# EAGLE library part MAX3107 (library BackplaneParts)
MAX3107 SPI/I2C UART with 128-Word FIFOs Digi-Key part: http://www.digikey.com/product-detail/en/maxim-integrated/MAX3107EAG-/MAX3107EAG--ND/2238939
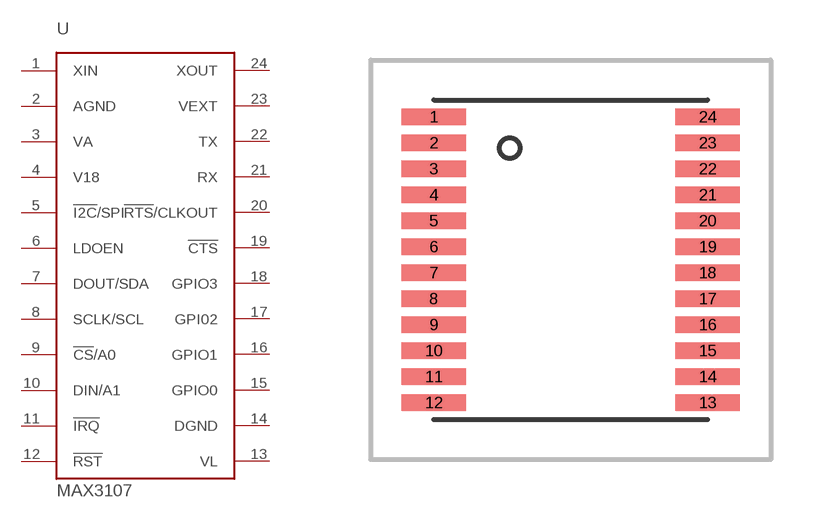
[diagram p1: symbol with the pads of SSOP-24; footprint SSOP-24]

Designator prefix U

## MAX3107SSOP  [SSOP-24]
1  XIN
2  AGND
3  VA
4  V18
5  !I2C!/SPI
6  LDOEN
7  DOUT/SDA
8  SCLK/SCL
9  !CS!/A0
10  DIN/A1
11  !IRQ!
12  !RST!
13  VL
14  DGND
15  GPIO0
16  GPIO1
17  GPI02
18  GPIO3
19  !CTS!
20  !RTS!/CLKOUT
21  RX
22  TX
23  VEXT
24  XOUT

## Footprint SSOP-24 (pad centres in mm)
SSOP-24 Built for a MAX3107 Drawing link: http://pdfserv.maximintegrated.com/land_patterns/90-0110.PDF
smd 1.62 x 0.42: 1 -3.425,3.575; 2 -3.425,2.925; 3 -3.425,2.275; 4 -3.425,1.625; 5 -3.425,0.975; 6 -3.425,0.325; 7 -3.425,-0.325; 8 -3.425,-0.975; 9 -3.425,-1.625; 10 -3.425,-2.275; 11 -3.425,-2.925; 12 -3.425,-3.575; 13 3.425,-3.575; 14 3.425,-2.925; 15 3.425,-2.275; 16 3.425,-1.625; 17 3.425,-0.975; 18 3.425,-0.325; 19 3.425,0.325; 20 3.425,0.975; 21 3.425,1.625; 22 3.425,2.275; 23 3.425,2.925; 24 3.425,3.575